# EAGLE library part OPA1654PW (library tofu)
TI Low Noise and Distortion, General-Purpose, FET-Input AUDIO OPERATIONAL AMPLIFIERS
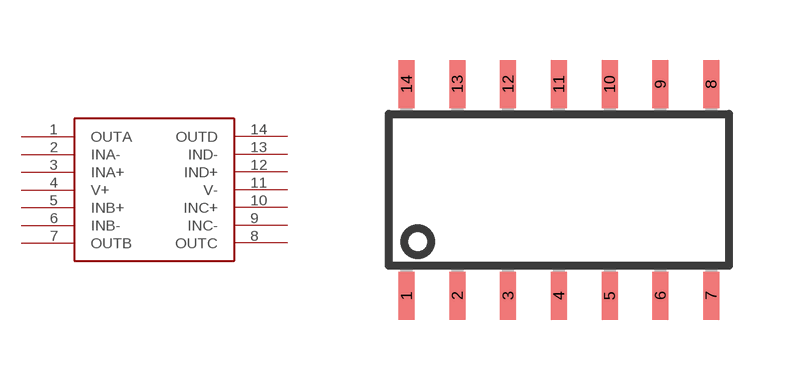
[diagram p3: symbol with the pads of D_R-PDSO-G14; footprint D_R-PDSO-G14]

Designator prefix -

## OPA1654PW  [D_R-PDSO-G14]
1  OUTA  out
2  INA-  in
3  INA+  in
4  V+
5  INB+  in
6  INB-  in
7  OUTB  out
8  OUTC  out
9  INC-  in
10  INC+  in
11  V-
12  IND+  in
13  IND-  in
14  OUTD  out

## Footprint D_R-PDSO-G14 (pad centres in mm)
PLASTIC SMALL-OUTLINE PACKAGE SO 14 JEDEC MS-012, D Type Source: www.ti.com/.. slvs087l.pdf
smd 0.4 x 1.2: 1 -3.81,-2.65; 2 -2.54,-2.65; 3 -1.27,-2.65; 4 0,-2.65; 5 1.27,-2.65; 6 2.54,-2.65; 7 3.81,-2.65; 8 3.81,2.65; 9 2.54,2.65; 10 1.27,2.65; 11 0,2.65; 12 -1.27,2.65; 13 -2.54,2.65; 14 -3.81,2.65